# Altium footprint library CC2012-0805.PcbLib: 1 footprints
Each footprint in its own frame and in the unit in brackets; x right, y up, seen from the top. Pads: shape width x height; smd on the part's side, far side on the other; paste and mask are expansions set on the pad; w line width, h text height; cw(c..) or ccw(c..) is an arc to the next point about the centre after c.
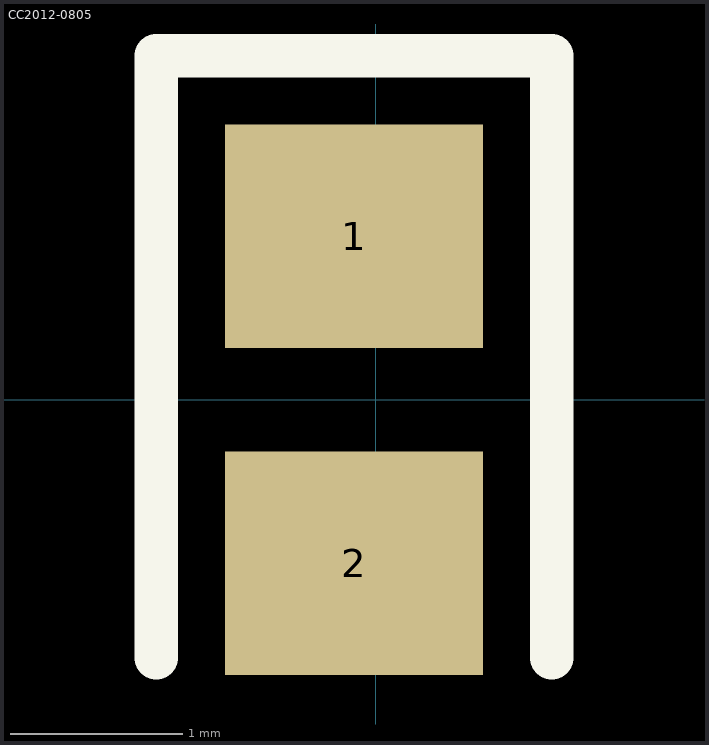
[diagram p0: the footprint, top view; thin cyan lines are the x and y axes]

## CC2012-0805 [mm] "CC2012-0805"
pads (2):
  rect 1.5x1.3 smd: 1(-0.127,0.95) 2(-0.127,-0.95)
Top Overlay:
  lines w0.254: -1.277,-1.5 -1.277,2 1.023,2 1.023,-1.5